# EAGLE library part TSW-S-11_S (library con-samtec-tsw)
HEADER
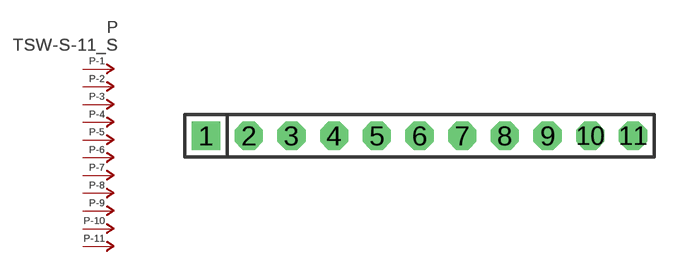
[diagram p50: symbol with the pads of TSW-S-11; footprint TSW-S-11]

Designator prefix P; gates -1=P-NV -2=P-N -3=P-N -4=P-N -5=P-N -6=P-N -7=P-N -8=P-N -9=P-N -10=P-N -11=P-N

## TSW-S-11_S  [TSW-S-11]
1  -1:P  pas
2  -2:P  pas
3  -3:P  pas
4  -4:P  pas
5  -5:P  pas
6  -6:P  pas
7  -7:P  pas
8  -8:P  pas
9  -9:P  pas
10  -10:P  pas
11  -11:P  pas

## Footprint TSW-S-11 (pad centres in mm)
HEADER
drill 0.914 pad 1.676 square: 1 -12.7,0
drill 0.914 pad 1.676 octagon: 2 -10.16,0; 3 -7.62,0; 4 -5.08,0; 5 -2.54,0; 6 0,0; 7 2.54,0; 8 5.08,0; 9 7.62,0; 10 10.16,0; 11 12.7,0